# Altium footprint library TUSB320LIRWBR.PcbLib: 1 footprints
Each footprint in its own frame and in the unit in brackets; x right, y up, seen from the top. Pads: shape width x height; smd on the part's side, far side on the other; paste and mask are expansions set on the pad; w line width, h text height; cw(c..) or ccw(c..) is an arc to the next point about the centre after c.
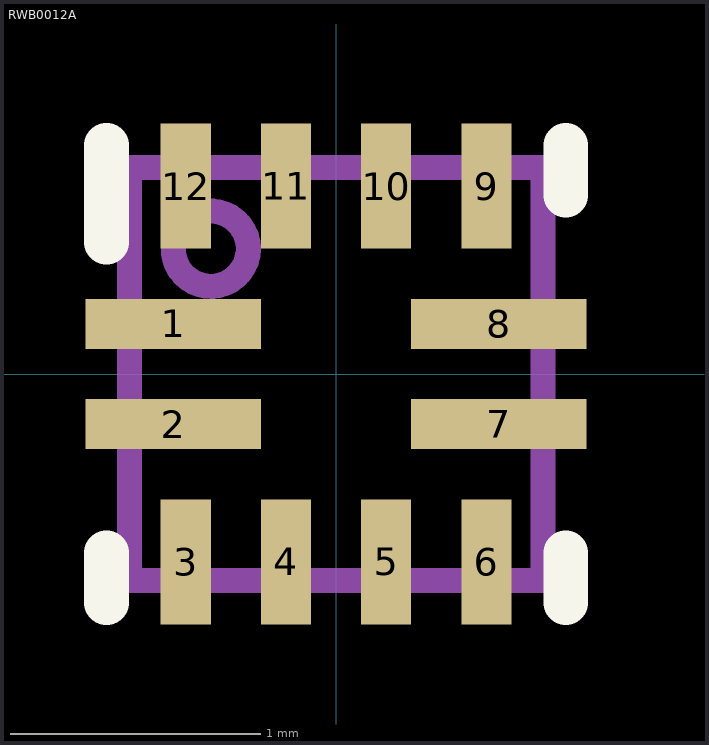
[diagram p0: the footprint, top view; thin cyan lines are the x and y axes]

## RWB0012A [mm]
pads (12):
  rect 0.7x0.2 smd paste-0.337 mask+0.051: 1(-0.65,0.2) 2(-0.65,-0.2) 7(0.65,-0.2) 8(0.65,0.2)
  rect 0.2x0.5 smd paste+0 mask+0.051: 3(-0.6,-0.75) 4(-0.2,-0.75) 5(0.2,-0.75) 6(0.6,-0.75) 9(0.6,0.75) 10(0.2,0.75) 11(-0.2,0.75) 12(-0.6,0.75)
Top Overlay:
  lines w0.178: -0.916,-0.914 -0.916,-0.714 ; -0.916,0.525 -0.916,0.914 ; 0.916,-0.914 0.916,-0.714 ; 0.916,0.714 0.916,0.914
Mechanical 13:
  circle w0.1: c-0.5,0.5 r0.15
  lines w0.1: -0.825,-0.825 0.825,-0.825 0.825,0.825 -0.825,0.825 -0.825,-0.825
Drill Drawing:
  lines w0.254: 0.635,-1.016 1.143,-1.016 ; 0.635,1.016 1.143,1.016 ; 0.889,-1.27 0.889,-0.762 ; 0.889,0.762 0.889,1.27
  text "0.889,-1.016 (mm)" at 1.143,-1.016 h1.52
  text "0.889,1.016 (mm)" at 1.143,1.016 h1.52
3D body: height 0.25, standoff 0, extent 0,0 0.254,0.254